# Altium schematic symbol library RPA0609101M025B.SchLib: 1 symbol
Pins are listed as number, name and electrical type; pins without a type are passive.

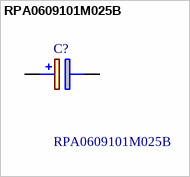
[diagram p0: symbol RPA0609101M025B]

## RPA0609101M025B
designator C?
Aluminum Organic Polymer Capacitors 25V 100uF 0609 ESR=30mOhms; Manufacturer_Name: Kyocera AVX; Geometry.Height: 10.5mm; Manufacturer_Part_Number: RPA0609101M025B; Mouser Part Number: 581-RPA0609101M025B; Mouser Price/Stock: https://www.mouser.co.uk/ProductDetail/KYOCERA-AVX/RPA0609101M025B?qs=Y0Uzf4wQF3lzEzQngFxXQA%3D%3D; Arrow Part Number: *; Arrow Price/Stock: *; Datasheet Link: https://datasheets.kyocera-avx.com/rpa-series.pdf
footprint CAPPRD250W55D630H1050
pins: 1 +, 2 -